# Altium schematic symbol library Diodes.SchLib: 2 symbols
Pins are listed as number, name and electrical type; pins without a type are passive.

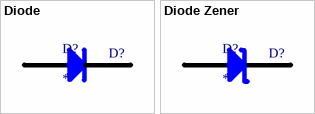
[diagram p0: symbols Diode to Diode Zener]

## Diode
designator D?

## Diode Zener
designator D?